# Altium footprint library ER-TFT1.54-1.PcbLib: 1 footprints
Each footprint in its own frame and in the unit in brackets; x right, y up, seen from the top. Pads: shape width x height; smd on the part's side, far side on the other; paste and mask are expansions set on the pad; w line width, h text height; cw(c..) or ccw(c..) is an arc to the next point about the centre after c.
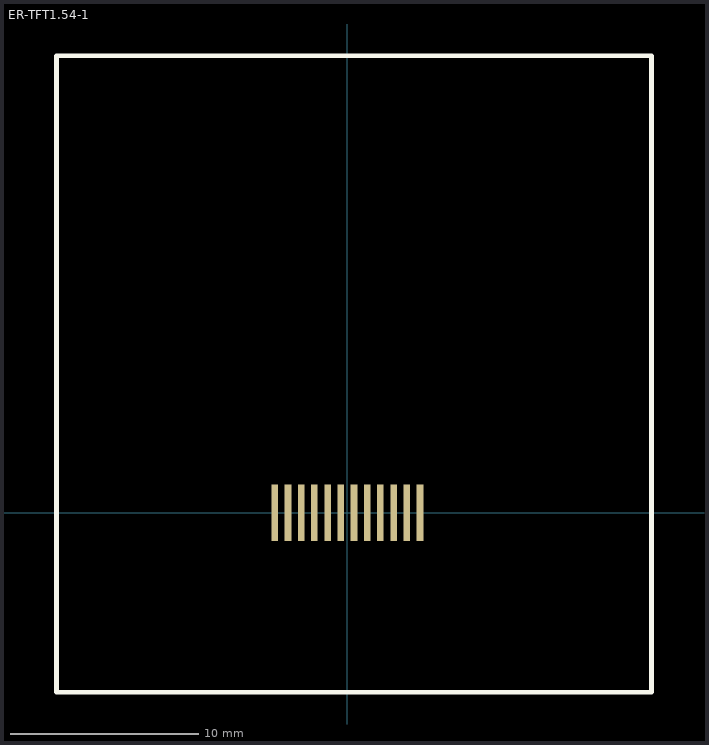
[diagram p0: the footprint, top view; thin cyan lines are the x and y axes]

## ER-TFT1.54-1 [mm]
height 1.6
pads (12):
  rect 0.35x3 smd: 1(3.85,0) 2(3.15,0) 3(2.45,0) 4(1.75,0) 5(1.05,0) 6(0.35,0) 7(-0.35,0) 8(-1.05,0) 9(-1.75,0) 10(-2.45,0) 11(-3.15,0) 12(-3.85,0)
Top Overlay:
  lines w0.254: -15.41,-9.5 16.11,-9.5 16.11,24.22 -15.41,24.22 -15.41,-9.5
3D body: height 2.1, standoff 0.15, extent -15.537,-9.627 16.237,24.347